# Altium schematic symbol library SCH - POWER - LINEAR VREG - TI TPS70612DBV.SchLib: 1 symbol
Pins are listed as number, name and electrical type; pins without a type are passive.

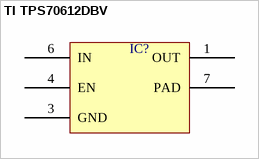
[diagram p0: symbol TI TPS70612DBV]

## TI TPS70612DBV
designator IC?  (value not drawn)
pins: 1 OUT, 3 GND, 4 EN, 6 IN, 7 PAD